# EAGLE library part MCP3421 (library misc)
http://ww1.microchip.com/downloads/en/AppNotes/01156a.pdf The MCP3421 is a single channel low-noise, high accuracy ?S A/D converter with differential inputs and up to 18 bits of resolution in a small SOT-23-6 package. The on-board precision 2.048V reference voltage enables an input range of ±2.048V differentially (? voltage = 4.096V). The device uses a two-wire I2C compatible serial interface and operates from a single 2.7V to 5.5V power supply. The MCP3421 device performs conversion at rates of 3.75, 15, 60, or 240 samples per second (SPS) depending on the user controllable configuration bit settings using the two-wire I2C serial interface. This device has an on-board programmable gain amplifier (PGA). The user can select the PGA gain of x1, x2, x4, or x8 before the analog-to-digital conversion takes place. This allows the MCP3421 device to convert a smaller input signal with high resolution. The device has two conversion modes: (a) Continuous mode and (b) One-Shot mode. In One-Shot mode, the device enters a low current standby mode automatically after one conversion. This reduces current consumption greatly during idle periods. The MCP3421 device can be used for various high accuracy analog-to-digital data conversion applications where design simplicity, low power, and small footprint are major considerations.
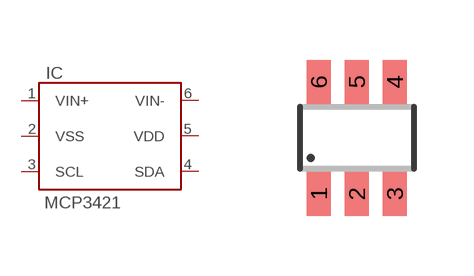
[diagram p1: symbol with the pads of SOT23-6_MCP; footprint SOT23-6_MCP]

Designator prefix IC

## MCP3421 (OC_DIGIKEY: MCP3421A0T-E/CH; OC_FARNELL: 1605567)  [SOT23-6_MCP]
1  VIN+  in
2  VSS  pwr
3  SCL
4  SDA
5  VDD  pwr
6  VIN-  in

## Footprint SOT23-6_MCP (pad centres in mm)
Small Outline Transistor 6 lead
smd 0.6 x 1.1: 1 -0.95,-1.4; 2 0,-1.4; 3 0.95,-1.4; 4 0.95,1.4; 5 0,1.4; 6 -0.95,1.4